# Altium footprint library WRA2415D-10W.PcbLib: 1 footprints
Each footprint in its own frame and in the unit in brackets; x right, y up, seen from the top. Pads: shape width x height; smd on the part's side, far side on the other; paste and mask are expansions set on the pad; w line width, h text height; cw(c..) or ccw(c..) is an arc to the next point about the centre after c.
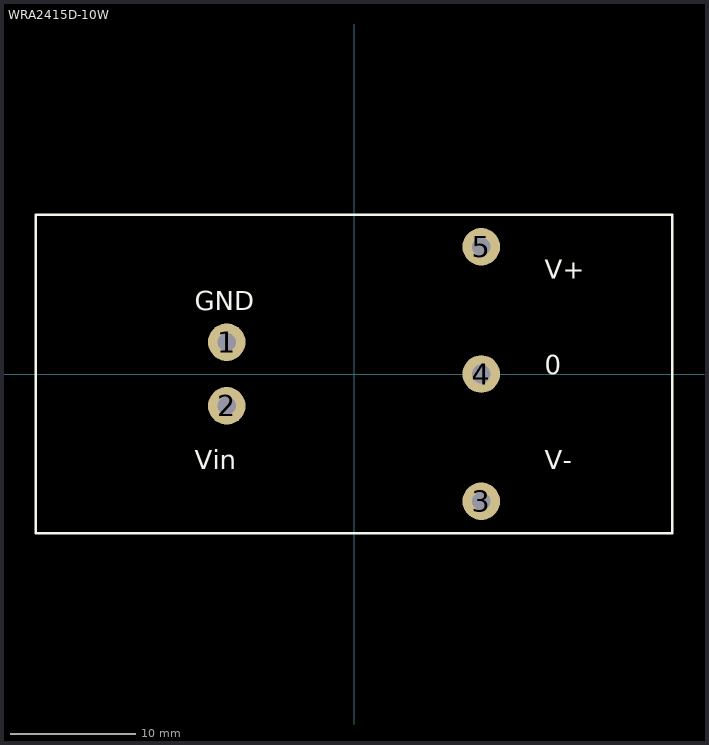
[diagram p0: the footprint, top view; thin cyan lines are the x and y axes]

## WRA2415D-10W [mm]
pads (5):
  round 3 hole 1.5: 1(-10.16,2.54) 2(-10.16,-2.54) 3(10.16,-10.16) 4(10.16,0) 5(10.16,10.16)
Top Overlay:
  lines w0.2: -25.4,-12.7 25.4,-12.7 25.4,12.7 -25.4,12.7 -25.4,-12.7
  text "GND" at -12.7,5.08 h1.52
  text "Vin" at -12.7,-7.62 h1.52
  text "0" at 15.24,0 h1.52
  text "V+" at 15.24,7.62 h1.52
  text "V-" at 15.24,-7.62 h1.52
3D body: height 11, standoff 0, extent -25.4,-12.7 25.4,12.7